# Altium footprint library SAMTEC_FW-15-04-H-D-260-170.PcbLib: 1 footprints
Each footprint in its own frame and in the unit in brackets; x right, y up, seen from the top. Pads: shape width x height; smd on the part's side, far side on the other; paste and mask are expansions set on the pad; w line width, h text height; cw(c..) or ccw(c..) is an arc to the next point about the centre after c.
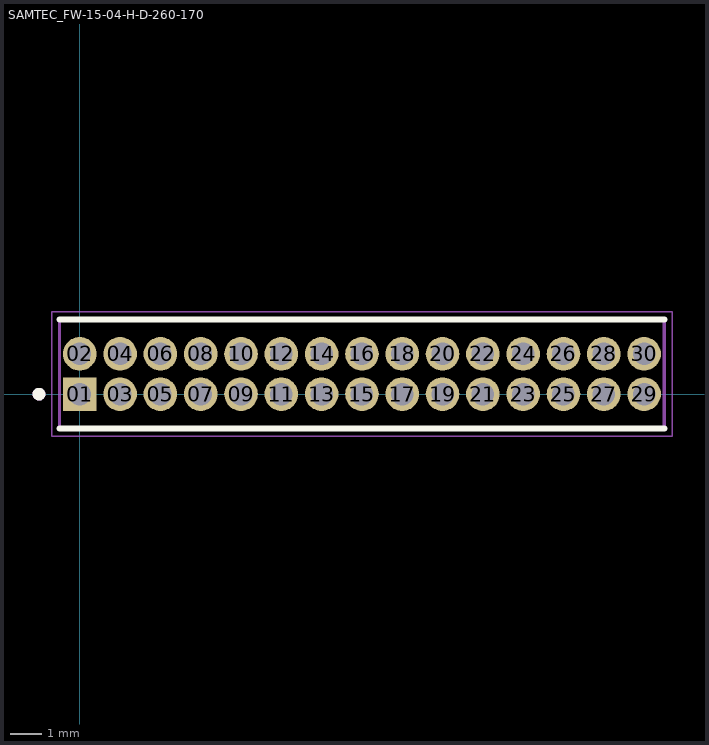
[diagram p0: the footprint, top view; thin cyan lines are the x and y axes]

## SAMTEC_FW-15-04-H-D-260-170 [mm]
pads (30):
  rect 1.06x1.06 / inner round 1.06 / far side rect 1.06x1.06 hole 0.71: 01(0,0)
  round 1.06 hole 0.71: 02(0,1.27) 03(1.27,0) 04(1.27,1.27) 05(2.54,0) 06(2.54,1.27) 07(3.81,0) 08(3.81,1.27) 09(5.08,0) 10(5.08,1.27) 11(6.35,0) 12(6.35,1.27) 13(7.62,0) 14(7.62,1.27) 15(8.89,0) 16(8.89,1.27) 17(10.16,0) 18(10.16,1.27) 19(11.43,0) 20(11.43,1.27) 21(12.7,0) 22(12.7,1.27) 23(13.97,0) 24(13.97,1.27) 25(15.24,0) 26(15.24,1.27) 27(16.51,0) 28(16.51,1.27) 29(17.78,0) 30(17.78,1.27)
Top Overlay:
  circle w0.2: c-1.285,0 r0.1
  lines w0.2: -0.635,-1.08 18.415,-1.08 ; -0.635,2.35 18.415,2.35
Mechanical 13:
  circle w0.2: c-1.285,0 r0.1
  lines w0.1: -0.635,-1.08 -0.635,2.35 ; -0.635,-1.08 18.415,-1.08 ; -0.635,-1.08 -0.635,2.35 ; -0.635,2.35 18.415,2.35 ; -0.635,2.35 18.415,2.35 ; 18.415,-1.08 18.415,2.35 ; 18.415,-1.08 18.415,2.35
Mechanical 15:
  lines w0.05: -0.885,-1.33 18.665,-1.33 18.665,2.6 -0.885,2.6 -0.885,-1.33